# EAGLE library part MOSAIC-X5 (library Septentrio_mosaic-X5)
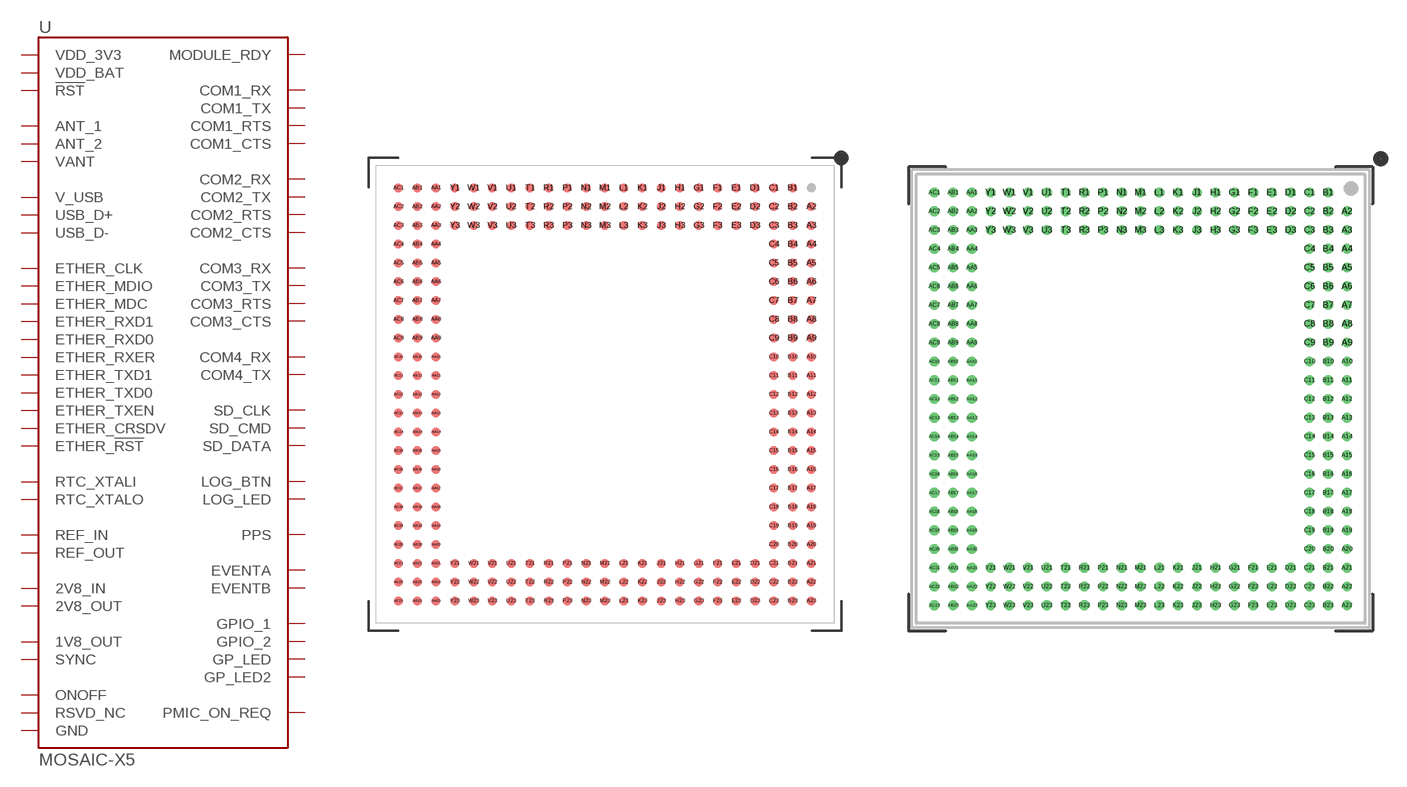
[diagram p0: symbol with the pads of MOSAIC_LGA; footprints MOSAIC_LGA, MOSAIC_LGA_VIA-IN-PAD]

Designator prefix -

## MOSAIC-X5X5 (PROD_ID: GPS-19395)  [MOSAIC_LGA]
A2  RTC_XTALO  out
A3  RTC_XTALI  in
A4  GND  pwr
A5  USB_D+
A6  USB_D-
A7  GND  pwr
A8  V_USB  in
A9  RSVD_NC  nc
A10  ONOFF  in
A11  !RST!  in
A12  MODULE_RDY  out
A13  RSVD_NC  nc
A14  GP_LED  out
A15  GND  pwr
A16  GND  pwr
A17  GND  pwr
A18  VDD_3V3  in
A19  VDD_3V3  in
A20  VDD_3V3  in
A21  GND  pwr
A22  GND  pwr
A23  GND  pwr
AA1  SD_CLK  out
AA2  ETHER_CLK  out
AA3  RSVD_NC  nc
AA4  GPIO_1  out
AA5  RSVD_NC  nc
AA6  RSVD_NC  nc
AA7  RSVD_NC  nc
AA8  RSVD_NC  nc
AA9  RSVD_NC  nc
AA10  RSVD_NC  nc
AA11  RSVD_NC  nc
AA12  RSVD_NC  nc
AA13  GND  pwr
AA14  GND  pwr
AA15  GND  pwr
AA16  GND  pwr
AA17  GND  pwr
AA18  GND  pwr
AA19  GND  pwr
AA20  GND  pwr
AA21  GND  pwr
AA22  GND  pwr
AA23  GND  pwr
AB1  SD_CMD  out
AB2  GND  pwr
AB3  GND  pwr
AB4  GND  pwr
AB5  GND  pwr
AB6  GND  pwr
AB7  GND  pwr
AB8  GND  pwr
AB9  RSVD_NC  nc
AB10  RSVD_NC  nc
AB11  RSVD_NC  nc
AB12  RSVD_NC  nc
AB13  GND  pwr
AB14  GND  pwr
AB15  GND  pwr
AB16  GND  pwr
AB17  GND  pwr
AB18  GND  pwr
AB19  GND  pwr
AB20  GND  pwr
AB21  GND  pwr
AB22  GND  pwr
AB23  GND  pwr
AC1  RSVD_NC  nc
AC2  RSVD_NC  nc
AC3  SYNC  in
AC4  1V8_OUT  out
AC5  RSVD_NC  nc
AC6  EVENTA  in
AC7  EVENTB  in
AC8  PPS  out
AC9  RSVD_NC  nc
AC10  RSVD_NC  nc
AC11  RSVD_NC  nc
AC12  RSVD_NC  nc
AC13  GND  pwr
AC14  RSVD_NC  nc
AC15  GND  pwr
AC16  REF_OUT  out
AC17  REF_IN  in
AC18  GND  pwr
AC19  GND  pwr
AC20  ANT_1  in
AC21  GND  pwr
AC22  GND  pwr
AC23  GND  pwr
B1  COM1_RX  in
B2  LOG_LED  out
B3  RSVD_NC  nc
B4  GND  pwr
B5  GND  pwr
B6  GND  pwr
B7  GND  pwr
B8  VDD_BAT  in
B9  RSVD_NC  nc
B10  RSVD_NC  nc
B11  RSVD_NC  nc
B12  RSVD_NC  nc
B13  GND  pwr
B14  RSVD_NC  nc
B15  RSVD_NC  nc
B16  PMIC_ON_REQ  out
B17  GND  pwr
B18  VDD_3V3  in
B19  VDD_3V3  in
B20  VDD_3V3  in
B21  GND  pwr
B22  RSVD_NC  nc
B23  RSVD_NC  nc
C1  COM1_RTS  out
C2  RSVD_NC  nc
C3  RSVD_NC  nc
C4  GND  pwr
C5  RSVD_NC  nc
C6  RSVD_NC  nc
C7  GND  pwr
C8  RSVD_NC  nc
C9  RSVD_NC  nc
C10  RSVD_NC  nc
C11  RSVD_NC  nc
C12  RSVD_NC  nc
C13  RSVD_NC  nc
C14  RSVD_NC  nc
C15  GND  pwr
C16  GND  pwr
C17  GND  pwr
C18  VDD_3V3  in
C19  VDD_3V3  in
C20  VDD_3V3  in
C21  RSVD_NC  nc
C22  RSVD_NC  nc
C23  GND  pwr
D1  COM1_TX  out
D2  GND  pwr
D3  COM4_RX  in
D21  GND  pwr
D22  GND  pwr
D23  GND  pwr
E1  COM1_CTS  in
E2  GND  pwr
E3  COM4_TX  out
E21  GND  pwr
E22  GND  pwr
E23  GND  pwr
F1  COM2_RX  in
F2  ETHER_!RST!  in
F3  RSVD_NC  nc
F21  GND  pwr
F22  GND  pwr
F23  GND  pwr
G1  COM2_RTS  out
G2  GND  pwr
G3  RSVD_NC  nc
G21  GND  pwr
G22  RSVD_NC  nc
G23  GND  pwr
H1  COM2_TX  out
H2  ETHER_TXD1  out
H3  RSVD_NC  nc
H21  GND  pwr
H22  GND  pwr
H23  GND  pwr
J1  COM2_CTS  in
J2  ETHER_TXD0  out
J3  RSVD_NC  nc
J21  GND  pwr
J22  GND  pwr
J23  GND  pwr
K1  COM3_RX  in
K2  GND  pwr
K3  LOG_BTN  in
K21  GND  pwr
K22  GND  pwr
K23  GND  pwr
L1  COM3_RTS  out
L2  ETHER_TXEN  out
L3  GPIO_2  out
L21  GND  pwr
L22  GND  pwr
L23  GND  pwr
M1  COM3_TX  out
M2  ETHER_RXER  in
M3  GP_LED2  out
M21  GND  pwr
M22  GND  pwr
M23  2V8_IN  in
N1  COM3_CTS  in
N2  ETHER_CRSDV  in
N3  RSVD_NC  nc
N21  GND  pwr
N22  GND  pwr
N23  2V8_OUT  out
P1  GND  pwr
P2  GND  pwr
P3  GND  pwr
P21  GND  pwr
P22  GND  pwr
P23  VANT  in
R1  RSVD_NC  nc
R2  ETHER_RXD0  in
R3  GND  pwr
R21  GND  pwr
R22  GND  pwr
R23  VANT  in
T1  RSVD_NC  nc
T2  ETHER_RXD1  in
T3  RSVD_NC  nc
T21  GND  pwr
T22  GND  pwr
T23  GND  pwr
U1  RSVD_NC  nc
U2  GND  pwr
U3  RSVD_NC  nc
U21  GND  pwr
U22  GND  pwr
U23  GND  pwr
V1  RSVD_NC  nc
V2  ETHER_MDC  out
V3  RSVD_NC  nc
V21  GND  pwr
V22  GND  pwr
V23  ANT_2  in
W1  RSVD_NC  nc
W2  ETHER_MDIO
W3  RSVD_NC  nc
W21  GND  pwr
W22  GND  pwr
W23  GND  pwr
Y1  SD_DATA
Y2  GND  pwr
Y3  RSVD_NC  nc
Y21  GND  pwr
Y22  GND  pwr
Y23  GND  pwr

## MOSAIC-X5X5_VIA-IN-PAD  [MOSAIC_LGA_VIA-IN-PAD]
Pads as for MOSAIC_LGA

## Footprint MOSAIC_LGA (pad centres in mm)
MOSAIC LGA - SMD
smd 0.6 x 0.6: A2 13.97,12.7; A3 13.97,11.43; A4 13.97,10.16; A5 13.97,8.89; A6 13.97,7.62; A7 13.97,6.35; A8 13.97,5.08; A9 13.97,3.81; A10 13.97,2.54; A11 13.97,1.27; A12 13.97,0; A13 13.97,-1.27; A14 13.97,-2.54; A15 13.97,-3.81; A16 13.97,-5.08; A17 13.97,-6.35; A18 13.97,-7.62; A19 13.97,-8.89; A20 13.97,-10.16; A21 13.97,-11.43; A22 13.97,-12.7; A23 13.97,-13.97; AA1 -11.43,13.97; AA2 -11.43,12.7; AA3 -11.43,11.43; AA4 -11.43,10.16; AA5 -11.43,8.89; AA6 -11.43,7.62; AA7 -11.43,6.35; AA8 -11.43,5.08; AA9 -11.43,3.81; AA10 -11.43,2.54; AA11 -11.43,1.27; AA12 -11.43,0; AA13 -11.43,-1.27; AA14 -11.43,-2.54; AA15 -11.43,-3.81; AA16 -11.43,-5.08; AA17 -11.43,-6.35; AA18 -11.43,-7.62; AA19 -11.43,-8.89; AA20 -11.43,-10.16; AA21 -11.43,-11.43; AA22 -11.43,-12.7; AA23 -11.43,-13.97; AB1 -12.7,13.97; AB2 -12.7,12.7; AB3 -12.7,11.43; AB4 -12.7,10.16; AB5 -12.7,8.89; AB6 -12.7,7.62; AB7 -12.7,6.35; AB8 -12.7,5.08; AB9 -12.7,3.81; AB10 -12.7,2.54; AB11 -12.7,1.27; AB12 -12.7,0; AB13 -12.7,-1.27; AB14 -12.7,-2.54; AB15 -12.7,-3.81; AB16 -12.7,-5.08; AB17 -12.7,-6.35; AB18 -12.7,-7.62; AB19 -12.7,-8.89; AB20 -12.7,-10.16; AB21 -12.7,-11.43; AB22 -12.7,-12.7; AB23 -12.7,-13.97; AC1 -13.97,13.97; AC2 -13.97,12.7; AC3 -13.97,11.43; AC4 -13.97,10.16; AC5 -13.97,8.89; AC6 -13.97,7.62; AC7 -13.97,6.35; AC8 -13.97,5.08; AC9 -13.97,3.81; AC10 -13.97,2.54; AC11 -13.97,1.27; AC12 -13.97,0; AC13 -13.97,-1.27; AC14 -13.97,-2.54; AC15 -13.97,-3.81; AC16 -13.97,-5.08; AC17 -13.97,-6.35; AC18 -13.97,-7.62; AC19 -13.97,-8.89; AC20 -13.97,-10.16; AC21 -13.97,-11.43; AC22 -13.97,-12.7; AC23 -13.97,-13.97; B1 12.7,13.97; B2 12.7,12.7; B3 12.7,11.43; B4 12.7,10.16; B5 12.7,8.89; B6 12.7,7.62; B7 12.7,6.35; B8 12.7,5.08; B9 12.7,3.81; B10 12.7,2.54; B11 12.7,1.27; B12 12.7,0; B13 12.7,-1.27; B14 12.7,-2.54; B15 12.7,-3.81; B16 12.7,-5.08; B17 12.7,-6.35; B18 12.7,-7.62; B19 12.7,-8.89; B20 12.7,-10.16; B21 12.7,-11.43; B22 12.7,-12.7; B23 12.7,-13.97; C1 11.43,13.97; C2 11.43,12.7; C3 11.43,11.43; C4 11.43,10.16; C5 11.43,8.89; C6 11.43,7.62; C7 11.43,6.35; C8 11.43,5.08; C9 11.43,3.81; C10 11.43,2.54; C11 11.43,1.27; C12 11.43,0; C13 11.43,-1.27; C14 11.43,-2.54; C15 11.43,-3.81; C16 11.43,-5.08; C17 11.43,-6.35; C18 11.43,-7.62; C19 11.43,-8.89; C20 11.43,-10.16; C21 11.43,-11.43; C22 11.43,-12.7; C23 11.43,-13.97; D1 10.16,13.97; D2 10.16,12.7; D3 10.16,11.43; D21 10.16,-11.43; D22 10.16,-12.7; D23 10.16,-13.97; E1 8.89,13.97; E2 8.89,12.7; E3 8.89,11.43; E21 8.89,-11.43; E22 8.89,-12.7; E23 8.89,-13.97; F1 7.62,13.97; F2 7.62,12.7; F3 7.62,11.43; F21 7.62,-11.43; F22 7.62,-12.7; F23 7.62,-13.97; G1 6.35,13.97; G2 6.35,12.7; G3 6.35,11.43; G21 6.35,-11.43; G22 6.35,-12.7; G23 6.35,-13.97; H1 5.08,13.97; H2 5.08,12.7; H3 5.08,11.43; H21 5.08,-11.43; H22 5.08,-12.7; H23 5.08,-13.97; J1 3.81,13.97; J2 3.81,12.7; J3 3.81,11.43; J21 3.81,-11.43; J22 3.81,-12.7; J23 3.81,-13.97; K1 2.54,13.97; K2 2.54,12.7; K3 2.54,11.43; K21 2.54,-11.43; K22 2.54,-12.7; K23 2.54,-13.97; L1 1.27,13.97; L2 1.27,12.7; L3 1.27,11.43; L21 1.27,-11.43; L22 1.27,-12.7; L23 1.27,-13.97; M1 0,13.97; M2 0,12.7; M3 0,11.43; M21 0,-11.43; M22 0,-12.7; M23 0,-13.97; N1 -1.27,13.97; N2 -1.27,12.7; N3 -1.27,11.43; N21 -1.27,-11.43; N22 -1.27,-12.7; N23 -1.27,-13.97; P1 -2.54,13.97; P2 -2.54,12.7; P3 -2.54,11.43; P21 -2.54,-11.43; P22 -2.54,-12.7; P23 -2.54,-13.97; R1 -3.81,13.97; R2 -3.81,12.7; R3 -3.81,11.43; R21 -3.81,-11.43; R22 -3.81,-12.7; R23 -3.81,-13.97; T1 -5.08,13.97; T2 -5.08,12.7; T3 -5.08,11.43; T21 -5.08,-11.43; T22 -5.08,-12.7; T23 -5.08,-13.97; U1 -6.35,13.97; U2 -6.35,12.7; U3 -6.35,11.43; U21 -6.35,-11.43; U22 -6.35,-12.7; U23 -6.35,-13.97; V1 -7.62,13.97; V2 -7.62,12.7; V3 -7.62,11.43; V21 -7.62,-11.43; V22 -7.62,-12.7; V23 -7.62,-13.97; W1 -8.89,13.97; W2 -8.89,12.7; W3 -8.89,11.43; W21 -8.89,-11.43; W22 -8.89,-12.7; W23 -8.89,-13.97; Y1 -10.16,13.97; Y2 -10.16,12.7; Y3 -10.16,11.43; Y21 -10.16,-11.43; Y22 -10.16,-12.7; Y23 -10.16,-13.97

## Footprint MOSAIC_LGA_VIA-IN-PAD (pad centres in mm)
MOSAIC LGA - via-in-pad
drill 0.15 pad 0.6: A2 13.97,12.7; A3 13.97,11.43; A4 13.97,10.16; A5 13.97,8.89; A6 13.97,7.62; A7 13.97,6.35; A8 13.97,5.08; A9 13.97,3.81; A10 13.97,2.54; A11 13.97,1.27; A12 13.97,0; A13 13.97,-1.27; A14 13.97,-2.54; A15 13.97,-3.81; A16 13.97,-5.08; A17 13.97,-6.35; A18 13.97,-7.62; A19 13.97,-8.89; A20 13.97,-10.16; A21 13.97,-11.43; A22 13.97,-12.7; A23 13.97,-13.97; AA1 -11.43,13.97; AA2 -11.43,12.7; AA3 -11.43,11.43; AA4 -11.43,10.16; AA5 -11.43,8.89; AA6 -11.43,7.62; AA7 -11.43,6.35; AA8 -11.43,5.08; AA9 -11.43,3.81; AA10 -11.43,2.54; AA11 -11.43,1.27; AA12 -11.43,0; AA13 -11.43,-1.27; AA14 -11.43,-2.54; AA15 -11.43,-3.81; AA16 -11.43,-5.08; AA17 -11.43,-6.35; AA18 -11.43,-7.62; AA19 -11.43,-8.89; AA20 -11.43,-10.16; AA21 -11.43,-11.43; AA22 -11.43,-12.7; AA23 -11.43,-13.97; AB1 -12.7,13.97; AB2 -12.7,12.7; AB3 -12.7,11.43; AB4 -12.7,10.16; AB5 -12.7,8.89; AB6 -12.7,7.62; AB7 -12.7,6.35; AB8 -12.7,5.08; AB9 -12.7,3.81; AB10 -12.7,2.54; AB11 -12.7,1.27; AB12 -12.7,0; AB13 -12.7,-1.27; AB14 -12.7,-2.54; AB15 -12.7,-3.81; AB16 -12.7,-5.08; AB17 -12.7,-6.35; AB18 -12.7,-7.62; AB19 -12.7,-8.89; AB20 -12.7,-10.16; AB21 -12.7,-11.43; AB22 -12.7,-12.7; AB23 -12.7,-13.97; AC1 -13.97,13.97; AC2 -13.97,12.7; AC3 -13.97,11.43; AC4 -13.97,10.16; AC5 -13.97,8.89; AC6 -13.97,7.62; AC7 -13.97,6.35; AC8 -13.97,5.08; AC9 -13.97,3.81; AC10 -13.97,2.54; AC11 -13.97,1.27; AC12 -13.97,0; AC13 -13.97,-1.27; AC14 -13.97,-2.54; AC15 -13.97,-3.81; AC16 -13.97,-5.08; AC17 -13.97,-6.35; AC18 -13.97,-7.62; AC19 -13.97,-8.89; AC20 -13.97,-10.16; AC21 -13.97,-11.43; AC22 -13.97,-12.7; AC23 -13.97,-13.97; B1 12.7,13.97; B2 12.7,12.7; B3 12.7,11.43; B4 12.7,10.16; B5 12.7,8.89; B6 12.7,7.62; B7 12.7,6.35; B8 12.7,5.08; B9 12.7,3.81; B10 12.7,2.54; B11 12.7,1.27; B12 12.7,0; B13 12.7,-1.27; B14 12.7,-2.54; B15 12.7,-3.81; B16 12.7,-5.08; B17 12.7,-6.35; B18 12.7,-7.62; B19 12.7,-8.89; B20 12.7,-10.16; B21 12.7,-11.43; B22 12.7,-12.7; B23 12.7,-13.97; C1 11.43,13.97; C2 11.43,12.7; C3 11.43,11.43; C4 11.43,10.16; C5 11.43,8.89; C6 11.43,7.62; C7 11.43,6.35; C8 11.43,5.08; C9 11.43,3.81; C10 11.43,2.54; C11 11.43,1.27; C12 11.43,0; C13 11.43,-1.27; C14 11.43,-2.54; C15 11.43,-3.81; C16 11.43,-5.08; C17 11.43,-6.35; C18 11.43,-7.62; C19 11.43,-8.89; C20 11.43,-10.16; C21 11.43,-11.43; C22 11.43,-12.7; C23 11.43,-13.97; D1 10.16,13.97; D2 10.16,12.7; D3 10.16,11.43; D21 10.16,-11.43; D22 10.16,-12.7; D23 10.16,-13.97; E1 8.89,13.97; E2 8.89,12.7; E3 8.89,11.43; E21 8.89,-11.43; E22 8.89,-12.7; E23 8.89,-13.97; F1 7.62,13.97; F2 7.62,12.7; F3 7.62,11.43; F21 7.62,-11.43; F22 7.62,-12.7; F23 7.62,-13.97; G1 6.35,13.97; G2 6.35,12.7; G3 6.35,11.43; G21 6.35,-11.43; G22 6.35,-12.7; G23 6.35,-13.97; H1 5.08,13.97; H2 5.08,12.7; H3 5.08,11.43; H21 5.08,-11.43; H22 5.08,-12.7; H23 5.08,-13.97; J1 3.81,13.97; J2 3.81,12.7; J3 3.81,11.43; J21 3.81,-11.43; J22 3.81,-12.7; J23 3.81,-13.97; K1 2.54,13.97; K2 2.54,12.7; K3 2.54,11.43; K21 2.54,-11.43; K22 2.54,-12.7; K23 2.54,-13.97; L1 1.27,13.97; L2 1.27,12.7; L3 1.27,11.43; L21 1.27,-11.43; L22 1.27,-12.7; L23 1.27,-13.97; M1 0,13.97; M2 0,12.7; M3 0,11.43; M21 0,-11.43; M22 0,-12.7; M23 0,-13.97; N1 -1.27,13.97; N2 -1.27,12.7; N3 -1.27,11.43; N21 -1.27,-11.43; N22 -1.27,-12.7; N23 -1.27,-13.97; P1 -2.54,13.97; P2 -2.54,12.7; P3 -2.54,11.43; P21 -2.54,-11.43; P22 -2.54,-12.7; P23 -2.54,-13.97; R1 -3.81,13.97; R2 -3.81,12.7; R3 -3.81,11.43; R21 -3.81,-11.43; R22 -3.81,-12.7; R23 -3.81,-13.97; T1 -5.08,13.97; T2 -5.08,12.7; T3 -5.08,11.43; T21 -5.08,-11.43; T22 -5.08,-12.7; T23 -5.08,-13.97; U1 -6.35,13.97; U2 -6.35,12.7; U3 -6.35,11.43; U21 -6.35,-11.43; U22 -6.35,-12.7; U23 -6.35,-13.97; V1 -7.62,13.97; V2 -7.62,12.7; V3 -7.62,11.43; V21 -7.62,-11.43; V22 -7.62,-12.7; V23 -7.62,-13.97; W1 -8.89,13.97; W2 -8.89,12.7; W3 -8.89,11.43; W21 -8.89,-11.43; W22 -8.89,-12.7; W23 -8.89,-13.97; Y1 -10.16,13.97; Y2 -10.16,12.7; Y3 -10.16,11.43; Y21 -10.16,-11.43; Y22 -10.16,-12.7; Y23 -10.16,-13.97